# EAGLE library part LC05111CMT (library Eric Navarrete Custom Parts Feb 2019)
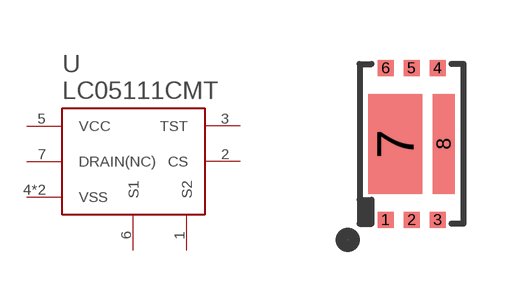
[diagram p35: symbol with the pads of WDFN6_2.6X4.0; footprint WDFN6_2.6X4.0]

Designator prefix -

## LC05111CMT  [WDFN6_2.6X4.0]
1  S2
2  CS
3  TST
4  VSS
5  VCC
6  S1
7  DRAIN(NC)
8  VSS

## Footprint WDFN6_2.6X4.0 (pad centres in mm)
smd 0.4 x 0.4: 1 -0.65,-1.9; 2 0,-1.9; 3 0.65,-1.9; 4 0.65,1.9; 5 0,1.9; 6 -0.65,1.9
smd 1.35 x 2.5: 7 -0.41,0
smd 0.55 x 2.5: 8 0.8,0